# EAGLE library part 2QSP20-19E (library resistor-bourns)
BOURNS RESISTOR NETWORK
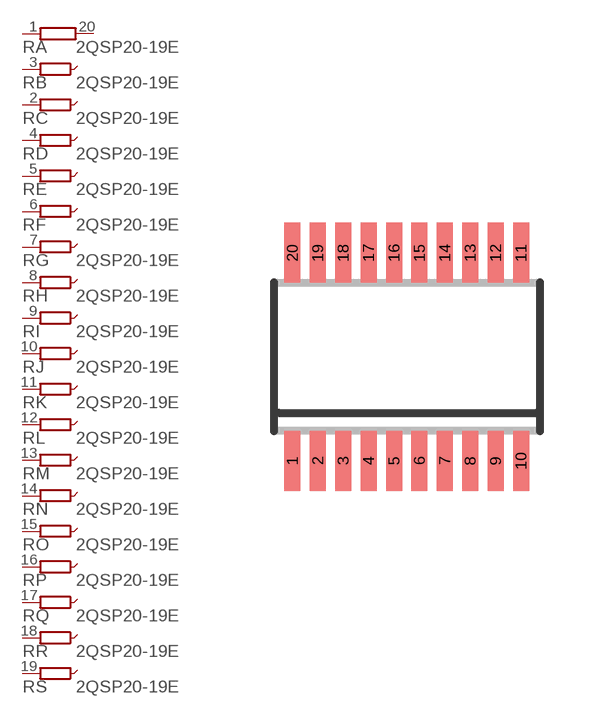
[diagram p10: symbol with the pads of 2QSP20; footprint 2QSP20]

Designator prefix R; gates A=R1NV B=R1NVXX C=R1NVXX D=R1NVXX E=R1NVXX F=R1NVXX G=R1NVXX H=R1NVXX I=R1NVXX J=R1NVXX K=R1NVXX L=R1NVXX M=R1NVXX N=R1NVXX O=R1NVXX P=R1NVXX Q=R1NVXX R=R1NVXX S=R1NVXX

## 2QSP20-19E (OC_FARNELL: unknown; OC_NEWARK: unknown)  [2QSP20]
1  A:1  pas
2  C:1  pas
3  B:1  pas
4  D:1  pas
5  E:1  pas
6  F:1  pas
7  G:1  pas
8  H:1  pas
9  I:1  pas
10  J:1  pas
11  K:1  pas
12  L:1  pas
13  M:1  pas
14  N:1  pas
15  O:1  pas
16  P:1  pas
17  Q:1  pas
18  R:1  pas
19  S:1  pas
20  A:2  pas

## Footprint 2QSP20 (pad centres in mm)
BOURNS RESISTOR NETWORK
smd 0.4 x 1.5: 1 -2.223,-2.6; 2 -1.588,-2.6; 3 -0.953,-2.6; 4 -0.318,-2.6; 5 0.318,-2.6; 6 0.953,-2.6; 7 1.588,-2.6; 8 2.223,-2.6; 9 2.858,-2.6; 10 3.493,-2.6; 11 3.493,2.6; 12 2.858,2.6; 13 2.223,2.6; 14 1.588,2.6; 15 0.953,2.6; 16 0.318,2.6; 17 -0.318,2.6; 18 -0.953,2.6; 19 -1.588,2.6; 20 -2.223,2.6